# EAGLE library part XIAO (library RP2040_THT_Invertido)
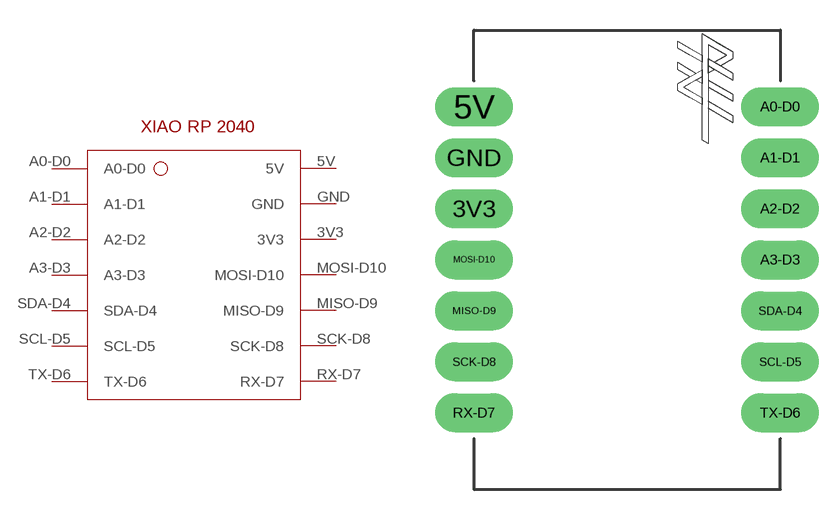
[diagram p0: symbol with the pads of RP2040LONGPAD; footprint RP2040LONGPAD]

Designator prefix L

## XIAO  [RP2040LONGPAD]
3V3  3V3
5V  5V
A0-D0  A0-D0
A1-D1  A1-D1
A2-D2  A2-D2
A3-D3  A3-D3
GND  GND
MISO-D9  MISO-D9
MOSI-D10  MOSI-D10
RX-D7  RX-D7
SCK-D8  SCK-D8
SCL-D5  SCL-D5
SDA-D4  SDA-D4
TX-D6  TX-D6

## Footprint RP2040LONGPAD (pad centres in mm)
drill 0.8 pad 1.93 long: 3V3 -7.609,2.54; 5V -7.609,7.62; A0-D0 7.609,7.62; A1-D1 7.609,5.08; A2-D2 7.609,2.54; A3-D3 7.609,0; GND -7.609,5.08; MISO-D9 -7.609,-2.54; MOSI-D10 -7.609,0; RX-D7 -7.609,-7.62; SCK-D8 -7.609,-5.08; SCL-D5 7.609,-5.08; SDA-D4 7.609,-2.54; TX-D6 7.609,-7.62